# EAGLE library part RGB-LED (library skynet_other)
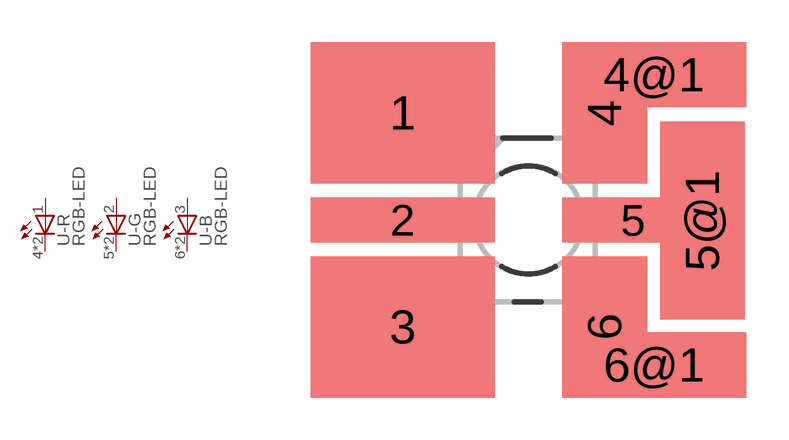
[diagram p0: symbol with the pads of PLCC-6; footprint PLCC-6]

Designator prefix -; gates -R=LED-A -G=LED-A -B=LED-A

## RGB-LED  [PLCC-6]
1  -R:A  pas
2  -G:A  pas
3  -B:A  pas
4  -R:C  pas
4@1  -R:C  pas
5  -G:C  pas
5@1  -G:C  pas
6  -B:C  pas
6@1  -B:C  pas

## Footprint PLCC-6 (pad centres in mm)
smd 6.5 x 5: 1 -4.442,3.786; 3 -4.442,-3.786
smd 6.5 x 1.6: 2 -4.442,0
smd 3 x 5: 4 2.692,3.786; 6 2.692,-3.786
smd 6.5 x 2.3: 4@1 4.442,5.136; 6@1 4.442,-5.136
smd 5 x 1.6: 5 3.692,0
smd 3 x 7: 5@1 6.15,-0.025